# EAGLE library part AMG88 (library bytewerk-sensor)
8x8 Grid Thermal Sensor
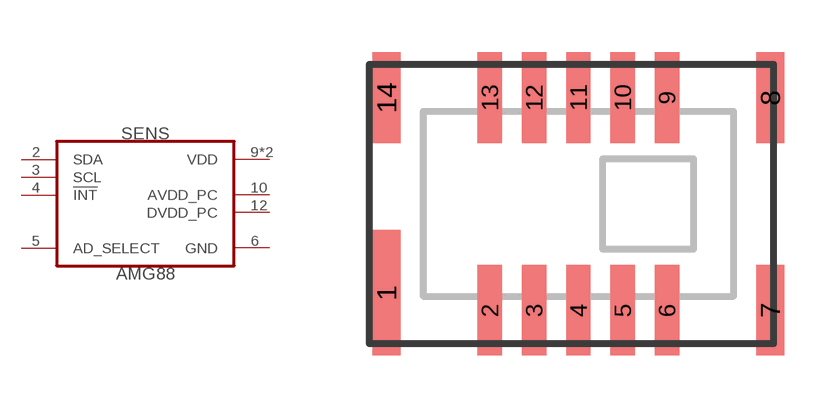
[diagram p0: symbol with the pads of AMG88; footprint AMG88]

Designator prefix SENS

## AMG88 (MF: Panasonic; MPN: AMG88; OC_DIGIKEY: 255-3506-2-ND)  [AMG88]
2  SDA
3  SCL
4  !INT!  out
5  AD_SELECT  in
6  GND  pwr
9  VDD  pwr
10  AVDD_PC  pwr
12  DVDD_PC  pwr
13  VDD  pwr

## Footprint AMG88 (pad centres in mm)
smd 0.8 x 3.6: 1 -5.5,-2.55
smd 0.7 x 2.6: 2 -2.54,-3.05; 3 -1.27,-3.05; 4 0,-3.05; 5 1.27,-3.05; 6 2.54,-3.05; 9 2.54,3.05; 10 1.27,3.05; 11 0,3.05; 12 -1.27,3.05; 13 -2.54,3.05
smd 0.8 x 2.6: 7 5.5,-3.05; 8 5.5,3.05; 14 -5.5,3.05